# EAGLE library part PCM1715U (library burr-brown)
Dual Voltage Output CMOS Delta-Sigma DAC
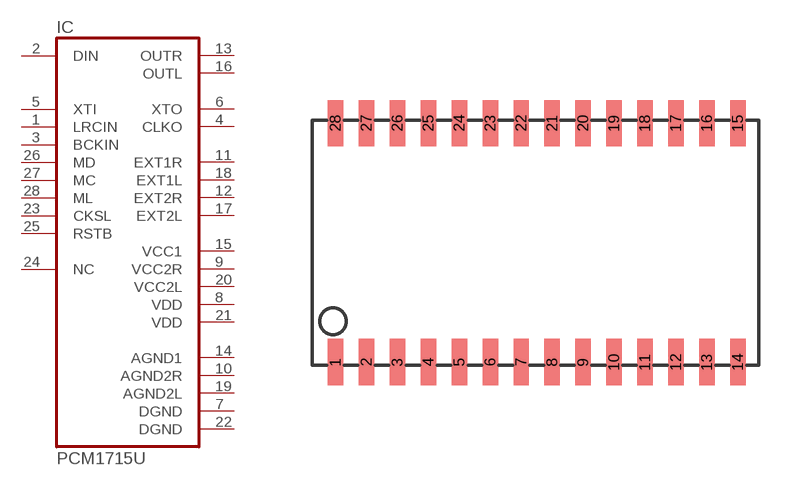
[diagram p99: symbol with the pads of SOJ28-4; footprint SOJ28-4]

Designator prefix IC

## PCM1715U (OC_FARNELL: unknown; OC_NEWARK: unknown)  [SOJ28-4]
1  LRCIN  in
2  DIN  in
3  BCKIN  in
4  CLKO  out
5  XTI  in
6  XTO  out
7  DGND  pwr
8  VDD  pwr
9  VCC2R  pwr
10  AGND2R  pwr
11  EXT1R  out
12  EXT2R  out
13  OUTR  out
14  AGND1  pwr
15  VCC1  pwr
16  OUTL  out
17  EXT2L  out
18  EXT1L  out
19  AGND2L  pwr
20  VCC2L  pwr
21  VDD  pwr
22  DGND  pwr
23  CKSL  in
24  NC  nc
25  RSTB  in
26  MD  in
27  MC  in
28  ML  in

## Footprint SOJ28-4 (pad centres in mm)
Small Outline J-Lead Package
smd 0.635 x 1.905: 1 -8.255,-4.902; 2 -6.985,-4.902; 3 -5.715,-4.902; 4 -4.445,-4.902; 5 -3.175,-4.902; 6 -1.905,-4.902; 7 -0.635,-4.902; 8 0.635,-4.902; 9 1.905,-4.902; 10 3.175,-4.902; 11 4.445,-4.902; 12 5.715,-4.902; 13 6.985,-4.902; 14 8.255,-4.902; 15 8.255,4.902; 16 6.985,4.902; 17 5.715,4.902; 18 4.445,4.902; 19 3.175,4.902; 20 1.905,4.902; 21 0.635,4.902; 22 -0.635,4.902; 23 -1.905,4.902; 24 -3.175,4.902; 25 -4.445,4.902; 26 -5.715,4.902; 27 -6.985,4.902; 28 -8.255,4.902